# Altium schematic symbol library 7178DG.SchLib: 1 symbol
Pins are listed as number, name and electrical type; pins without a type are passive.

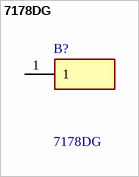
[diagram p0: symbol 7178DG]

## 7178DG
designator B?
Heat Sinks Channel Style Stamped Heatsink with Single Narrow/Integrated Clip for TO-220, Copper, Vertical Mounting, 35.7 n Thermal Resistance, 2.54mm Hole; Manufacturer_Name: Aavid Thermalloy; Geometry.Height: 22.86mm; Mouser Part Number: 532-7178DG; Mouser Price/Stock: https://www.mouser.co.uk/ProductDetail/Aavid/7178DG?qs=U7T%2FEnMyvTs%252BrLPKYORuUQ%3D%3D; Manufacturer_Part_Number: 7178DG; Datasheet Link: https://4donline.ihs.com/images/VipMasterIC/IC/AAVT/AAVTS00133/AAVTS00064-1.pdf?hkey=CECEF36DEECDED6468708AAF2E19C0C6
footprint 7178DG
pins: 1